# Altium schematic symbol library SCH - MOSFETS - ISC060N10NM6ATMA1.Schlib: 1 symbol
Pins are listed as number, name and electrical type; pins without a type are passive.

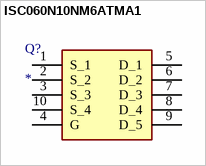
[diagram p0: symbol ISC060N10NM6ATMA1]

## ISC060N10NM6ATMA1
designator Q?
MOSFET (N-Channel)
pins: 1 S_1, 2 S_2, 3 S_3, 4 G, 5 D_1, 6 D_2, 7 D_3, 8 D_4, 9 D_5, 10 S_4